# EAGLE library part TPD12S016PWR (library TPD12S016)
HDMI, I²C Buffer, ESD Protection Interface 24-TSSOP
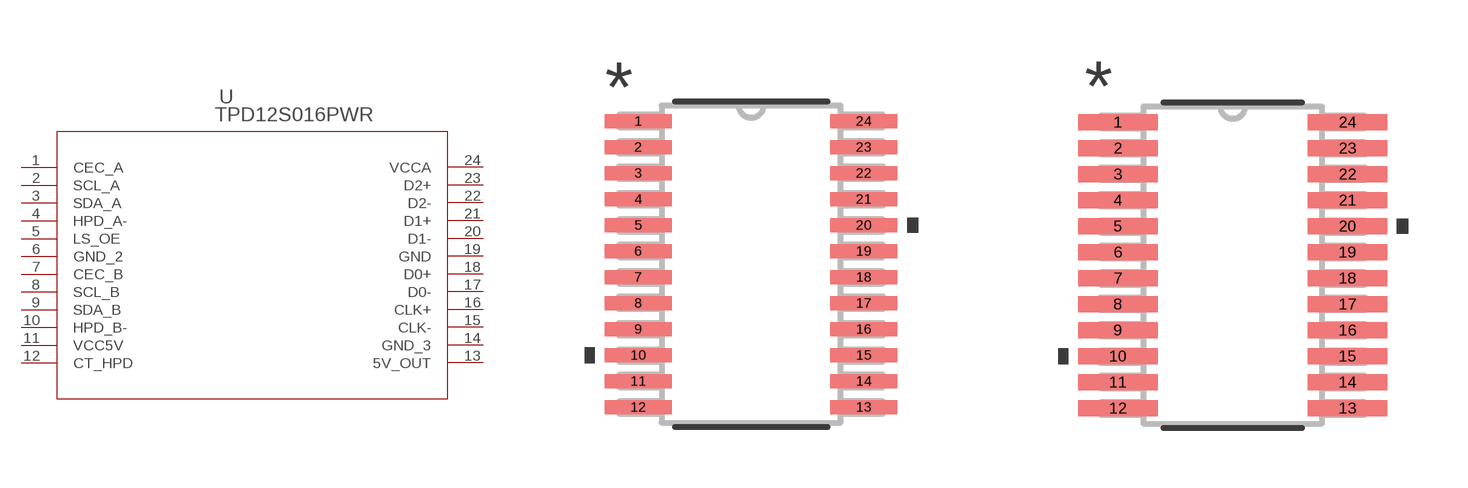
[diagram p0: symbol with the pads of PW24; footprints PW24, PW24-M]

Designator prefix U

## TPD12S016PWR (MANUFACTURER_PART_NUMBER: TPD12S016PWR; VENDOR: Texas Instruments)  [PW24]
1  CEC_A
2  SCL_A
3  SDA_A
4  HPD_A-  out
5  LS_OE  in
6  GND_2  pwr
7  CEC_B
8  SCL_B
9  SDA_B
10  HPD_B-  in
11  VCC5V  pwr
12  CT_HPD  in
13  5V_OUT  out
14  GND_3  pwr
15  CLK-  pas
16  CLK+  pas
17  D0-  pas
18  D0+  pas
19  GND  pwr
20  D1-  pas
21  D1+  pas
22  D2-  pas
23  D2+  pas
24  VCCA  pwr

## TPD12S016PWRPW24-M (MANUFACTURER_PART_NUMBER: TPD12S016PWR; VENDOR: Texas Instruments)  [PW24-M]
Pads as for PW24

## TPD12S016PWRPW24-L (MANUFACTURER_PART_NUMBER: TPD12S016PWR; VENDOR: Texas Instruments)  [PW24-L]
Pads as for PW24

## Footprint PW24 (pad centres in mm)
smd 1.676 x 0.356: 1 -2.819,3.575; 2 -2.819,2.925; 3 -2.819,2.275; 4 -2.819,1.625; 5 -2.819,0.975; 6 -2.819,0.325; 7 -2.819,-0.325; 8 -2.819,-0.975; 9 -2.819,-1.625; 10 -2.819,-2.275; 11 -2.819,-2.925; 12 -2.819,-3.575; 13 2.819,-3.575; 14 2.819,-2.925; 15 2.819,-2.275; 16 2.819,-1.625; 17 2.819,-0.975; 18 2.819,-0.325; 19 2.819,0.325; 20 2.819,0.975; 21 2.819,1.625; 22 2.819,2.275; 23 2.819,2.925; 24 2.819,3.575

## Footprint PW24-M (pad centres in mm)
smd 1.981 x 0.406: 1 -2.87,3.575; 2 -2.87,2.925; 3 -2.87,2.275; 4 -2.87,1.625; 5 -2.87,0.975; 6 -2.87,0.325; 7 -2.87,-0.325; 8 -2.87,-0.975; 9 -2.87,-1.625; 10 -2.87,-2.275; 11 -2.87,-2.925; 12 -2.87,-3.575; 13 2.87,-3.575; 14 2.87,-2.925; 15 2.87,-2.275; 16 2.87,-1.625; 17 2.87,-0.975; 18 2.87,-0.325; 19 2.87,0.325; 20 2.87,0.975; 21 2.87,1.625; 22 2.87,2.275; 23 2.87,2.925; 24 2.87,3.575

## Footprint PW24-L (pad centres in mm)
smd 1.372 x 0.305: 1 -2.769,3.575; 2 -2.769,2.925; 3 -2.769,2.275; 4 -2.769,1.625; 5 -2.769,0.975; 6 -2.769,0.325; 7 -2.769,-0.325; 8 -2.769,-0.975; 9 -2.769,-1.625; 10 -2.769,-2.275; 11 -2.769,-2.925; 12 -2.769,-3.575; 13 2.769,-3.575; 14 2.769,-2.925; 15 2.769,-2.275; 16 2.769,-1.625; 17 2.769,-0.975; 18 2.769,-0.325; 19 2.769,0.325; 20 2.769,0.975; 21 2.769,1.625; 22 2.769,2.275; 23 2.769,2.925; 24 2.769,3.575